# EAGLE library part A3G4250D (library CPSS_SENSOR)
ST Microelectronics 3-axis Digital Gyroscope Features - Wide supply voltage: 2.4 V to 3.6 V - ±245 dps full scale - I2C/SPI digital output interface - 16-bit rate value data output - 8-bit temperature data output - Two digital output lines (interrupt and data ready) - Integrated low and high-pass filters with user-selectable bandwidth - Ultra-stable over temperature and time - Low-voltage-compatible IOs (1.8 V) - Embedded power-down and sleep mode - Embedded temperature sensor - Embedded FIFO - High shock survivability - Extended operating temperature range (-40 °C to +85 °C) - ECOPACK® RoHS and “Green” compliant - AEC-Q100 qualification
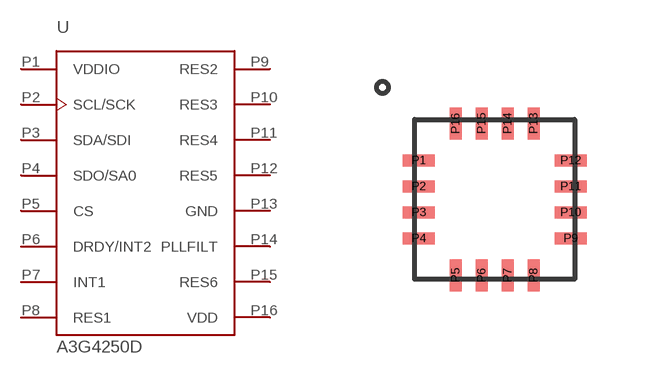
[diagram p0: symbol with the pads of LGA-16; footprint LGA-16]

Designator prefix U

## A3G4250D  [LGA-16]
P1  VDDIO  pwr
P2  SCL/SCK
P3  SDA/SDI
P4  SDO/SA0
P5  CS
P6  DRDY/INT2
P7  INT1
P8  RES1
P9  RES2
P10  RES3
P11  RES4
P12  RES5
P13  GND  sup
P14  PLLFILT
P15  RES6
P16  VDD  pwr

## Footprint LGA-16 (pad centres in mm)
smd 0.8 x 0.3: P1 -1.9,0.975; P2 -1.9,0.325; P3 -1.9,-0.325; P4 -1.9,-0.975; P9 1.9,-0.975; P10 1.9,-0.325; P11 1.9,0.325; P12 1.9,0.975
smd 0.3 x 0.8: P5 -0.975,-1.9; P6 -0.325,-1.9; P7 0.325,-1.9; P8 0.975,-1.9; P13 0.975,1.9; P14 0.325,1.9; P15 -0.325,1.9; P16 -0.975,1.9